# Altium footprint library SU10VD20010.PcbLib: 1 footprints
Each footprint in its own frame and in the unit in brackets; x right, y up, seen from the top. Pads: shape width x height; smd on the part's side, far side on the other; paste and mask are expansions set on the pad; w line width, h text height; cw(c..) or ccw(c..) is an arc to the next point about the centre after c.
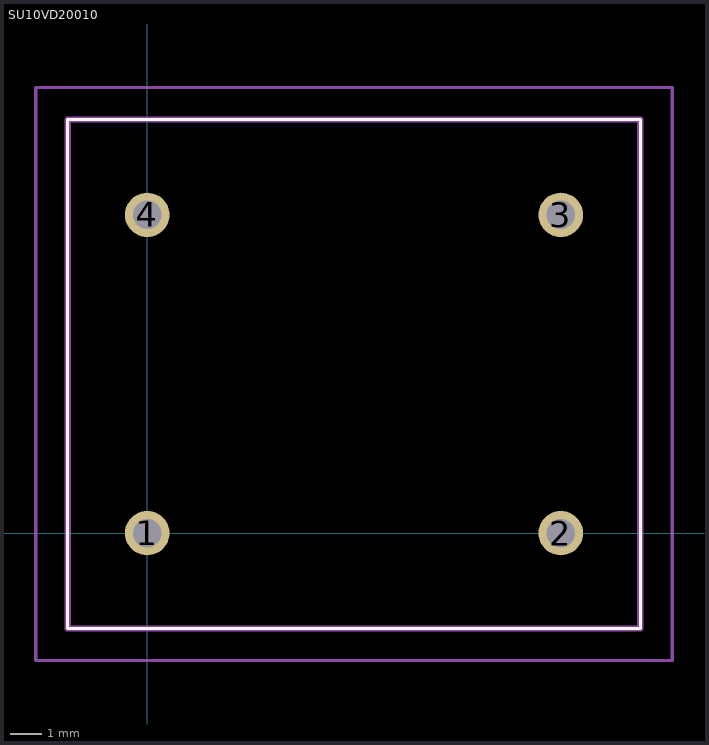
[diagram p0: the footprint, top view; thin cyan lines are the x and y axes]

## SU10VD20010 [mm]
pads (4):
  round 1.4 hole 0.9: 1(0,0) 2(13,0) 3(13,10) 4(0,10)
Top Overlay:
  lines w0.1: -2.5,-3 15.5,-3 15.5,13 -2.5,13 -2.5,-3
Mechanical 15:
  lines w0.2: -2.5,-3 15.5,-3 15.5,13 -2.5,13 -2.5,-3
Mechanical 20:
  lines w0.1: -3.5,-4 16.5,-4 16.5,14 -3.5,14 -3.5,-4